# Altium integrated library Attenuators.IntLib: 1 symbol
Pins are listed as number, name and electrical type; pins without a type are passive.

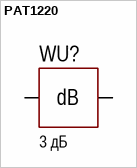
[diagram p0: symbol PAT1220]

## PAT1220
designator WU?, comment value 3 дБ  (hidden comment: PAT1220 3 дБ)
RF Attenuator, 1 to 10 dB, 50 Ohm, DC to 10 GHz; Part: PAT1220
footprint PAT1220
pins: 1 IN, 2 OUT, 3 GND (power) hidden to GND
text: dB